# EAGLE library part 74HC138PW (library 74HC138PW)
NXP 74HC138PW, Decoder, Demultiplexer, 3-of-8, Inverting, 2 6 V, 16-Pin TSSOP Source: Datasheet <https://assets.nexperia.com/documents/data-sheet/74HC_HCT138.pdf>
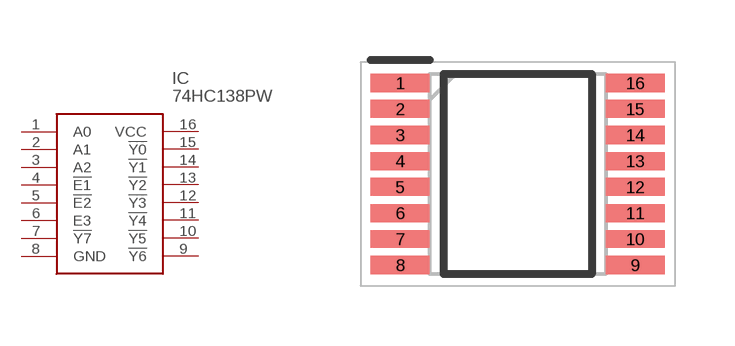
[diagram p0: symbol with the pads of SOP65P640X110-16N; footprint SOP65P640X110-16N]

Designator prefix IC

## 74HC138PW (Description: NXP 74HC138PW, Decoder, Demultiplexer, 3-of-8, Inverting, 2 6 V, 16-Pin TSSOP; Height: 1.1mm; Manufacturer_Name: Nexperia; Manufacturer_Part_Number: 74HC138PW; Mouser_Part_Number: 771-74HC138PW; Mouser_Price-Stock: https://www.mouser.com/Search/Refine.aspx?Keyword=771-74HC138PW)  [SOP65P640X110-16N]
1  A0
2  A1
3  A2
4  !E1
5  !E2
6  E3
7  !Y7
8  GND
9  !Y6
10  !Y5
11  !Y4
12  !Y3
13  !Y2
14  !Y1
15  !Y0
16  VCC

## Footprint SOP65P640X110-16N (pad centres in mm)
tssop16
smd 1.475 x 0.45: 1 -2.938,2.275; 2 -2.938,1.625; 3 -2.938,0.975; 4 -2.938,0.325; 5 -2.938,-0.325; 6 -2.938,-0.975; 7 -2.938,-1.625; 8 -2.938,-2.275; 9 2.938,-2.275; 10 2.938,-1.625; 11 2.938,-0.975; 12 2.938,-0.325; 13 2.938,0.325; 14 2.938,0.975; 15 2.938,1.625; 16 2.938,2.275